# Altium footprint library TO Package.PcbLib: 2 footprints
Each footprint in its own frame and in the unit in brackets; x right, y up, seen from the top. Pads: shape width x height; smd on the part's side, far side on the other; paste and mask are expansions set on the pad; w line width, h text height; cw(c..) or ccw(c..) is an arc to the next point about the centre after c.
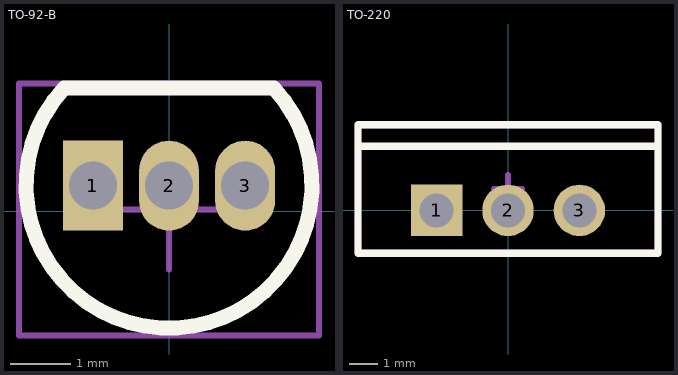
[diagram p0: the footprints below, top view; thin cyan lines are the x and y axes]

## TO-92-B [mm]
pads (3):
  rect 1x1.5 hole 0.8: 1(-1.27,0.425)
  oval 1x1.5 hole 0.8: 2(0,0.425) 3(1.27,0.425)
Top Overlay:
  lines w0.25: -1.75,2.05 ccw(c0,0.433) 1.75,2.05 -1.75,2.05
Assembly:
  lines w0.1: -1.75,2.05 ccw(c0,0.433) 1.75,2.05 -1.75,2.05
Mechanical 15:
  lines w0.1: -1,0.025 1,0.025 ; 0,-0.975 0,1.025 ; -2.5,-2.075 -2.5,2.125 2.5,2.125 2.5,-2.075 -2.5,-2.075
3D body "User Library-TO-92A.step": height 10, standoff -1, extent -2.4,-1.89 2.4,2.04

## TO-220 [mm]
pads (3):
  rect 1.8x1.8 hole 1.2: 1(-2.5,0)
  round 1.8 hole 1.2: 2(0,0) 3(2.5,0)
Top Overlay:
  lines w0.254: -5.25,2.25 5.25,2.25 ; -5.25,-1.5 5.25,-1.5 5.25,3 -5.25,3 -5.25,-1.5
Assembly:
  lines w0.254: -5.25,-1.5 5.25,-1.5 5.25,3 -5.25,3 -5.25,-1.5
Mechanical 15:
  lines w0.2: -0.5,0.75 0.5,0.75 ; 0,0.25 0,1.25
  lines w0.254: -0.5,0 0.5,0 ; 0,-0.5 0,0.5 ; -5.25,-1.5 5.25,-1.5 5.25,3 -5.25,3 -5.25,0.75 -5.25,-1.5
3D body "TO-220.step": height 21.75, standoff -8, extent -5.2,-1.53 5.2,3.07